# EAGLE library part SDCARD (library logik2)
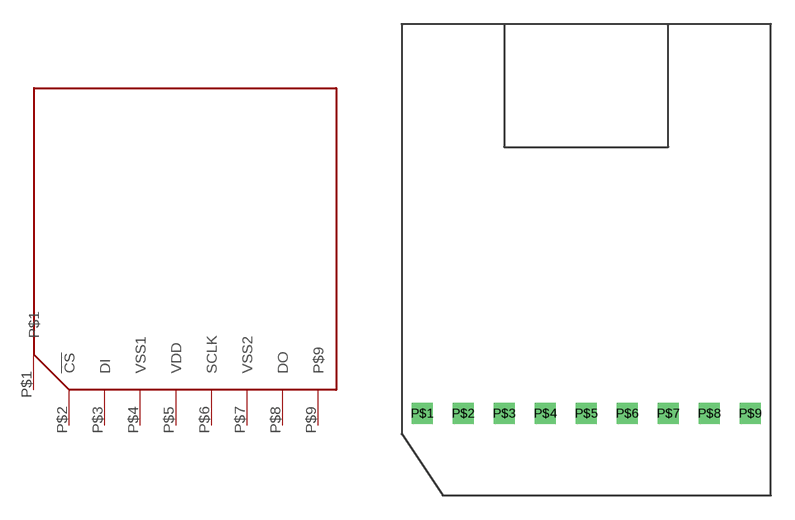
[diagram p3: symbol with the pads of SDCARD; footprint SDCARD]

Designator prefix -

## SDCARD  [SDCARD]
P$1  P$1
P$2  !CS
P$3  DI
P$4  VSS1
P$5  VDD
P$6  SCLK
P$7  VSS2
P$8  DO
P$9  P$9

## Footprint SDCARD (pad centres in mm)
drill 0.8 square: P$1 -2.54,0; P$2 0,0; P$3 2.54,0; P$4 5.08,0; P$5 7.62,0; P$6 10.16,0; P$7 12.7,0; P$8 15.24,0; P$9 17.78,0